# Altium schematic symbol library Capacitors.SchLib: 38 symbols
Pins are listed as number, name and electrical type; pins without a type are passive.

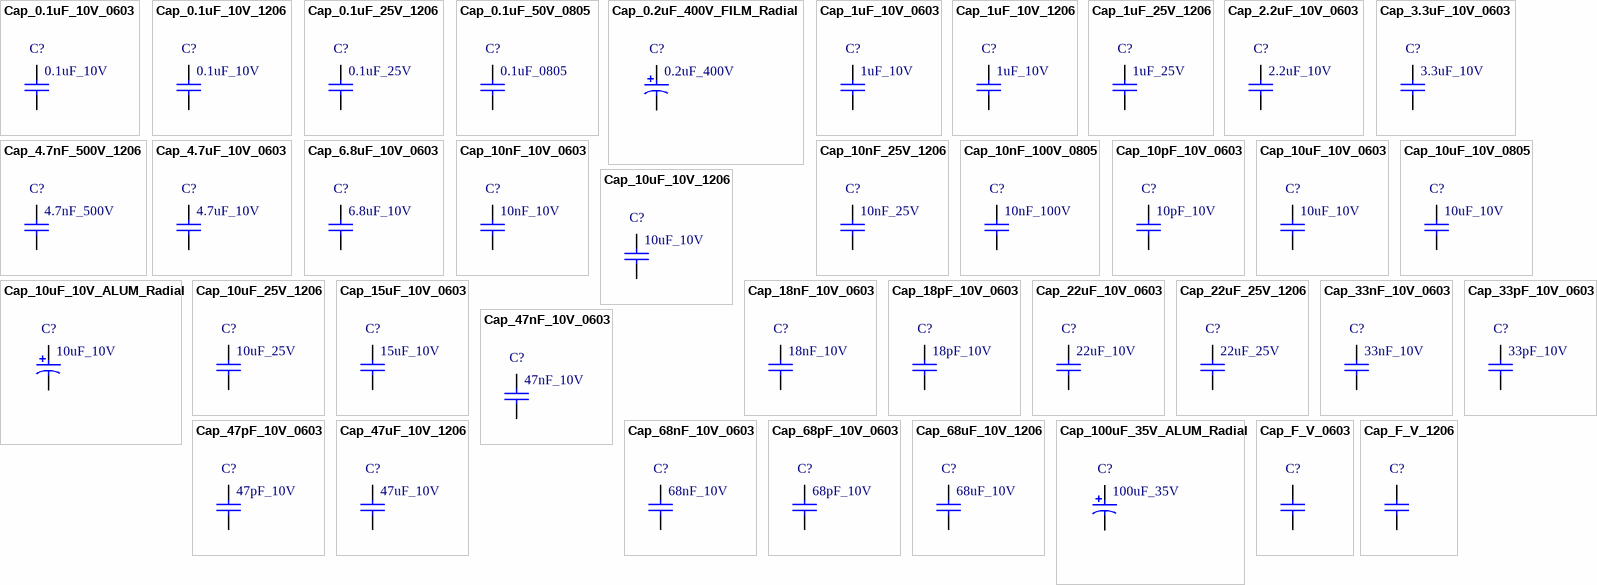
[diagram p0: symbols Cap_0.1uF_10V_0603 to Cap_F_V_1206]

## Cap_0.1uF_10V_0603
designator C?  SchematicInformation: 0.1uF_10V
Manufacturer Part Number: 885012206020; Manufacturer: Würth Elektronik; Dielectric: X7R
footprint C_0603 (0603 Style B SMT capacitor)
pins: 1, 1, 2, 2

## Cap_0.1uF_10V_1206
designator C?  SchematicInformation: 0.1uF_10V
Manufacturer Part Number: 885012208009; Manufacturer: Würth Elektronik; Dielectric: X7R
footprint C_1206 (1206 SMT capacitor)
pins: 1, 2

## Cap_0.1uF_25V_1206
designator C?  SchematicInformation: 0.1uF_25V
Manufacturer Part Number: CC1206KRX7R8BB104; Manufacturer: Yageo; Dielectric: X7R
footprint C_1206 (1206 SMT capacitor)
pins: 1, 2

## Cap_0.1uF_50V_0805
designator C?  SchematicInformation: 0.1uF_0805
Manufacturer Part Number: KEMET; Manufacturer: C0805C104Z5VACTU; Dielectric: Y5V
footprint C_0805 (0805 Style B SMT capacitor)
pins: 1, 1, 2, 2

## Cap_0.2uF_400V_FILM_Radial
designator C?  SchematicInformation: 0.2uF_400V
Manufacturer Part Number: ECW-F4204JL; Manufacturer: Panasonic Electronic Components
pins: 1, 2

## Cap_1uF_10V_0603
designator C?  SchematicInformation: 1uF_10V
Manufacturer Part Number: Murata Electronics; Dielectric: X5R; Manufacturer: Murata Electronics
footprint C_0603 (0603 Style B SMT capacitor)
pins: 1, 2

## Cap_1uF_10V_1206
designator C?  SchematicInformation: 1uF_10V
Manufacturer Part Number: 885012208013; Manufacturer: Würth Elektronik; Dielectric: X7R
footprint C_1206 (1206 SMT capacitor)
pins: 1, 2

## Cap_1uF_25V_1206
designator C?  SchematicInformation: 1uF_25V
Manufacturer Part Number: CL31B105KAHNNNE; Manufacturer: Samsung Electro-Mechanics; Dielectric: X7R
footprint C_1206 (1206 SMT capacitor)
pins: 1, 2

## Cap_2.2uF_10V_0603
designator C?  SchematicInformation: 2.2uF_10V
Manufacturer Part Number: GRM188R71A225KE15J; Manufacturer: Murata Electronics; Dielectric: X7R
footprint C_0603 (0603 Style B SMT capacitor)
pins: 1, 2

## Cap_3.3uF_10V_0603
designator C?  SchematicInformation: 3.3uF_10V
Manufacturer Part Number: CL10A335KP8NNNC; Manufacturer: Samsung Electro-Mechanics; Dielectric: X5R
footprint C_0603 (0603 Style B SMT capacitor)
pins: 1, 2

## Cap_4.7nF_500V_1206
designator C?  SchematicInformation: 4.7nF_500V
Manufacturer Part Number: VJ1206Y472KXEAT5Z; Manufacturer: Vishay Vitramon; Dielectric: X7R
footprint C_1206 (1206 SMT capacitor)
pins: 1, 1, 2, 2

## Cap_4.7uF_10V_0603
designator C?  SchematicInformation: 4.7uF_10V
Manufacturer Part Number: CC0603KRX5R6BB475; Manufacturer: Yageo; Dielectric: X5R
footprint C_0603 (0603 Style B SMT capacitor)
pins: 1, 2

## Cap_6.8uF_10V_0603
designator C?  SchematicInformation: 6.8uF_10V
Manufacturer Part Number: C1608X5R1A685K080AC; Manufacturer: TDK Corporation; Dielectric: X5R
footprint C_0603 (0603 Style B SMT capacitor)
pins: 1, 2

## Cap_10nF_10V_0603
designator C?  SchematicInformation: 10nF_10V
Manufacturer Part Number: CC0603KRX7R6BB103; Manufacturer: Yageo; Dielectric: X7R
footprint C_0603 (0603 Style B SMT capacitor)
pins: 1, 2

## Cap_10nF_25V_1206
designator C?  SchematicInformation: 10nF_25V
Manufacturer Part Number: 12063C103KAT2A; Manufacturer: AVX Corporation; Dielectric: X7R
footprint C_1206 (1206 SMT capacitor)
pins: 1, 2

## Cap_10nF_100V_0805
designator C?  SchematicInformation: 10nF_100V
Manufacturer Part Number: VJ0805Y103KXBBC31; Manufacturer: Vishay Vitramon; Dielectric: X7R
footprint C_0805 (0805 Style B SMT capacitor)
pins: 1, 1, 2, 2

## Cap_10pF_10V_0603
designator C?  SchematicInformation: 10pF_10V
Manufacturer Part Number: 0603ZC100KAT2A; Manufacturer: AVX Corporation; Dielectric: X7R
footprint C_0603 (0603 Style B SMT capacitor)
pins: 1, 2

## Cap_10uF_10V_0603
designator C?  SchematicInformation: 10uF_10V
Manufacturer Part Number: GRM188R61A106ME69D; Manufacturer: Murata Electronics; Dielectric: X5R
footprint C_0603 (0603 Style B SMT capacitor)
pins: 1, 2

## Cap_10uF_10V_0805
designator C?  SchematicInformation: 10uF_10V
Manufacturer Part Number: CC0805ZKY5V6BB106; Manufacturer: Yageo; Dielectric: Y5V
footprint C_0805 (0805 Style B SMT capacitor)
pins: 1, 1, 2, 2

## Cap_10uF_10V_1206
designator C?  SchematicInformation: 10uF_10V
Manufacturer Part Number: C3216X7R1A106M160AC; Manufacturer: TDK Corporation; Dielectric: X7R
footprint C_1206 (1206 SMT capacitor)
pins: 1, 2

## Cap_10uF_10V_ALUM_Radial
designator C?  SchematicInformation: 10uF_10V
Manufacturer Part Number: 10MS510MEFC4X5; Manufacturer: Rubycon
pins: 1, 2

## Cap_10uF_25V_1206
designator C?  SchematicInformation: 10uF_25V
Manufacturer Part Number: CL31A106KAHNNNE; Manufacturer: Samsung Electro-Mechanics; Dielectric: X5R
footprint C_1206 (1206 SMT capacitor)
pins: 1, 2

## Cap_15uF_10V_0603
designator C?  SchematicInformation: 15uF_10V
Manufacturer Part Number: C1608X5R1A156M080AC; Manufacturer: TDK Corporation; Dielectric: X5R
footprint C_0603 (0603 Style B SMT capacitor)
pins: 1, 2

## Cap_18nF_10V_0603
designator C?  SchematicInformation: 18nF_10V
Manufacturer Part Number: LMK107SD183JA-T; Manufacturer: Taiyo Yuden
footprint C_0603 (0603 Style B SMT capacitor)
pins: 1, 2

## Cap_18pF_10V_0603
designator C?  SchematicInformation: 18pF_10V
Manufacturer Part Number: VJ0603A180FXQCW1BC; Manufacturer: Vishay Vitramon; Dielectric: C0G/NP0
footprint C_0603 (0603 Style B SMT capacitor)
pins: 1, 2

## Cap_22uF_10V_0603
designator C?  SchematicInformation: 22uF_10V
Manufacturer Part Number: GRM188R61A226ME15D; Manufacturer: Murata Electronics; Dielectric: X5R
footprint C_0603 (0603 Style B SMT capacitor)
pins: 1, 2

## Cap_22uF_25V_1206
designator C?  SchematicInformation: 22uF_25V
Manufacturer Part Number: CL31A226KAHNNNE; Manufacturer: Samsung Electro-Mechanics; Dielectric: X5R
footprint C_1206 (1206 SMT capacitor)
pins: 1, 2

## Cap_33nF_10V_0603
designator C?  SchematicInformation: 33nF_10V
Manufacturer Part Number: 885012206017; Manufacturer: Würth Elektronik; Dielectric: X7R
footprint C_0603 (0603 Style B SMT capacitor)
pins: 1, 2

## Cap_33pF_10V_0603
designator C?  SchematicInformation: 33pF_10V
Manufacturer Part Number: C0603C330J8GAC7867; Manufacturer: KEMET; Dielectric: C0G/NP0
footprint C_0603 (0603 Style B SMT capacitor)
pins: 1, 2

## Cap_47nF_10V_0603
designator C?  SchematicInformation: 47nF_10V
Manufacturer Part Number: 885012206018; Manufacturer: Würth Elektronik; Dielectric: X7R
footprint C_0603 (0603 Style B SMT capacitor)
pins: 1, 2

## Cap_47pF_10V_0603
designator C?  SchematicInformation: 47pF_10V
Manufacturer Part Number: C0603C470J8GAC7867; Manufacturer: KEMET; Dielectric: NP0
footprint C_0603 (0603 Style B SMT capacitor)
pins: 1, 2

## Cap_47uF_10V_1206
designator C?  SchematicInformation: 47uF_10V
Manufacturer Part Number: 1276-3063-1-ND; Manufacturer: Samsung Electro-Mechanics; Dielectric: X5R
footprint C_1206 (1206 SMT capacitor)
pins: 1, 1, 2, 2

## Cap_68nF_10V_0603
designator C?  SchematicInformation: 68nF_10V
Manufacturer Part Number: 885012206019; Manufacturer: Würth Elektronik; Dielectric: X7R
footprint C_0603 (0603 Style B SMT capacitor)
pins: 1, 2

## Cap_68pF_10V_0603
designator C?  SchematicInformation: 68pF_10V
Manufacturer Part Number: 885012006007; Manufacturer: Würth Elektronik; Dielectric: C0G/NP0
footprint C_0603 (0603 Style B SMT capacitor)
pins: 1, 2

## Cap_68uF_10V_1206
designator C?  SchematicInformation: 68uF_10V
Manufacturer Part Number: C3216X5R1A686M160AC; Manufacturer: TDK Corporation; Dielectric: X5R
footprint C_1206 (1206 SMT capacitor)
pins: 1, 2

## Cap_100uF_35V_ALUM_Radial
designator C?  SchematicInformation: 100uF_35V
Manufacturer Part Number: UPW1V101MPD; Manufacturer: Nichicon
pins: 1, 2

## Cap_F_V_0603
designator C?, comment COMPONENT NOT FOR DESIGN  (value not drawn)
pins: 1, 2

## Cap_F_V_1206
designator C?, comment COMPONENT NOT FOR DESIGN  (value not drawn)
footprint C_1206 (1206 SMT capacitor)
pins: 1, 2